# Altium footprint library PcbLib1.PcbLib: 20 footprints (part 1 of 2)
Each footprint in its own frame and in the unit in brackets; x right, y up, seen from the top. Pads: shape width x height; smd on the part's side, far side on the other; paste and mask are expansions set on the pad; w line width, h text height; cw(c..) or ccw(c..) is an arc to the next point about the centre after c.
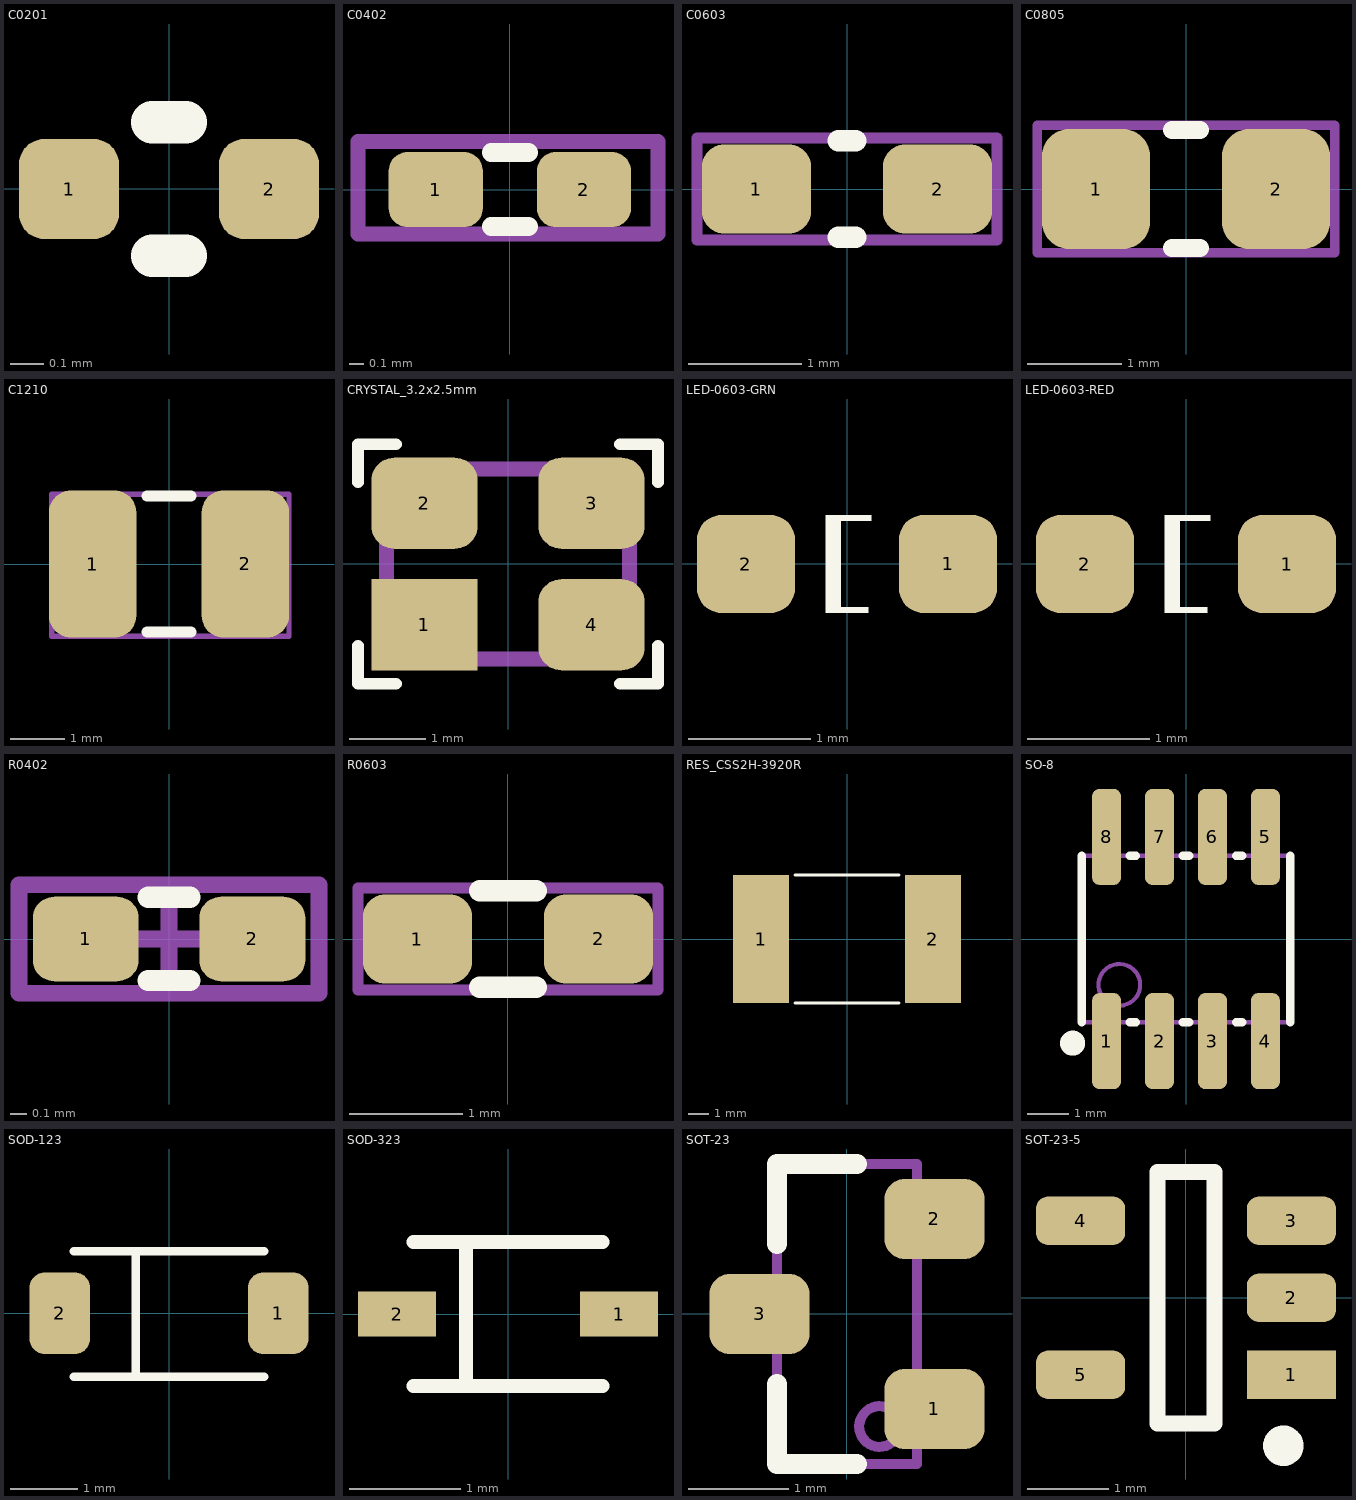
[diagram p0: the footprints below, top view; thin cyan lines are the x and y axes]

## C0201 [mm] "Chip Capacitor Body"
height 0.55
pads (2):
  rrect50% 0.3x0.3 smd mask+0.05: 1(-0.3,0) 2(0.3,0)
Top Overlay:
  lines w0.127: -0.05,-0.2 0.05,-0.2 ; -0.05,0.2 0.05,0.2
3D body "C0201_035.step": height 0.35, standoff 0, extent -0.3,-0.15 0.3,0.15

## C0402 [mm] "Chip Capacitor Body"
height 0.55
pads (2):
  rrect50% 0.635x0.508 smd mask+0.05: 1(-0.5,0) 2(0.5,0)
Top Overlay:
  lines w0.127: -0.125,-0.25 0.125,-0.25 ; -0.125,0.25 0.125,0.25
Mechanical 13:
  lines w0.1: -1.025,-0.3 -1.025,0.325 1,0.325 1,-0.3 -1.025,-0.3
3D body "CAPC-0402-T0.55-BN.stp": height 0.55, standoff 0, extent -0.525,-0.275 0.525,0.275

## C0603 [mil] "Chip Capacitor"
height 35.43
pads (2):
  rrect50% 38x31 smd mask+1.97: 1(-31.5,0) 2(31.5,0)
Top Overlay:
  lines w7.5: -2.95,-16.73 2.95,-16.73 ; -2.95,16.73 2.95,16.73
Mechanical 13:
  lines w3.94: -52.17,-17.72 52.17,-17.72 52.17,17.72 -52.17,17.72 -52.17,-17.72
3D body "CAPC-0603-T0.9-BN.stp": height 35.43, standoff 0, extent -33.46,-17.71 33.47,17.72

## C0805 [mil] "Chip Capacitor"
height 43.31
pads (2):
  rrect50% 45x50 smd mask+1.97: 1(-37.5,0) 2(37.5,0)
Top Overlay:
  lines w7.5: -5.91,-24.61 5.91,-24.61 ; -5.91,24.61 5.91,24.61
Mechanical 13:
  lines w3.94: -62.01,-26.57 -62.01,26.57 62.01,26.57 62.01,-26.57 -62.01,-26.57
3D body "CAPC-0805-T1.35-BN.stp": height 53.15, standoff 0, extent -41.34,-26.57 41.34,26.57

## C1210 [mm] "Chip Capacitor"
height 1.8
pads (2):
  rrect50% 1.6x2.7 smd mask+0.05: 1(-1.4,0) 2(1.4,0)
Top Overlay:
  lines w0.2: -0.4,-1.25 0.4,-1.25 ; -0.4,1.25 0.4,1.25
Mechanical 13:
  lines w0.1: -2.15,-1.325 2.2,-1.325 2.2,1.275 -2.15,1.275 -2.15,-1.325
3D body "CAPC-1210-T1.8-BN.stp": height 1.8, standoff 0, extent -1.75,-1.35 1.75,1.35

## CRYSTAL_3.2x2.5mm [mm]
pads (4):
  rect 1.4x1.2 smd mask+0.05: 1(-1.1,-0.8)
  rrect50% 1.4x1.2 smd mask+0.05: 2(-1.1,0.8) 3(1.1,0.8) 4(1.1,-0.8)
Top Overlay:
  lines w0.152: -1.975,-1.075 -1.975,-1.575 -1.475,-1.575 ; -1.975,1.075 -1.975,1.575 -1.475,1.575 ; 1.475,-1.575 1.975,-1.575 1.975,-1.075 ; 1.475,1.575 1.975,1.575 1.975,1.075
Mechanical 13:
  lines w0.2: -1.6,-1.25 -1.6,1.25 1.6,1.25 1.6,-1.25 -1.6,-1.25
3D body "User Library-Crystal_ECX-32.STEP": height 0.82, standoff 0, extent -1.6,-1.25 1.6,1.25

## LED-0603-GRN [mm]
height 0.55
pads (2):
  rrect50% 0.8x0.8 smd mask+0.05: 1(0.825,0) 2(-0.825,0)
Top Overlay:
  region: 0.2,0.4 -0.175,0.4 -0.175,0.35 0.2,0.35
  region: -0.05,0.4 -0.175,0.4 -0.175,-0.4 -0.05,-0.4
  region: 0.175,-0.35 -0.175,-0.35 -0.175,-0.4 0.175,-0.4
3D body "LED_0603_G.STEP": height 0.6, standoff 0, extent -0.8,-0.4 0.8,0.4

## LED-0603-RED [mm]
height 0.55
pads (2):
  rrect50% 0.8x0.8 smd paste+0 mask+0.05: 1(0.825,0) 2(-0.825,0)
Top Overlay:
  region: 0.175,-0.35 -0.175,-0.35 -0.175,-0.4 0.175,-0.4
  region: -0.05,0.4 -0.175,0.4 -0.175,-0.4 -0.05,-0.4
  region: 0.2,0.4 -0.175,0.4 -0.175,0.35 0.2,0.35
3D body "LED_0603_R.STEP": height 0.6, standoff 0, extent -0.8,-0.4 0.8,0.4

## R0402 [mil]
height 15.75
pads (2):
  rrect50% 25x20 smd mask+1.97: 1(-19.68,0) 2(19.69,0)
Top Overlay:
  lines w5: -4.92,-9.84 4.92,-9.84 ; -4.92,9.85 4.92,9.85
Mechanical 13:
  lines w3.94: -35.43,-12.79 -35.43,12.8 35.43,12.8 35.43,-12.79 -35.43,-12.79
Mechanical 15:
  lines w3.94: -10.83,0 10.83,0 ; 0,-10.83 0,10.83
3D body "RESC-0402.stp": height 15.75, standoff 0, extent -20.66,-10.82 20.68,10.83

## R0603 [mil] "Chip Resistor; Body 1.6 x 0.8 mm (LxW typ)"
height 21.65
pads (2):
  rrect50% 38x31 smd mask+1.97: 1(-31.5,0) 2(31.5,0)
Top Overlay:
  lines w7.5: -9.84,-16.73 9.84,-16.73 ; -9.84,16.73 9.84,16.73
Mechanical 13:
  lines w3.94: -52.17,-17.72 -52.17,17.72 52.17,17.72 52.17,-17.72 -52.17,-17.72
3D body "RESC-0603.stp": height 21.65, standoff 0, extent -33.46,-17.72 33.46,17.72

## RES_CSS2H-3920R [mm]
pads (2):
  rect 2.7x6.2 smd: 1(-4.15,0) 2(4.15,0)
Top Overlay:
  lines w0.15: -2.5,-3.1 2.5,-3.1 ; -2.5,3.1 2.5,3.1
3D body "User Library-LRMAP3920.step": height 1.98, standoff -0.02, extent -5.46,-2.76 5.46,2.76

## SO-8 [mm] "SOIC, 8-Leads, Body 4.9x3.9mm, Pitch 1.27mm, IPC Low Density"
height 1.75
pads (8):
  rrect50% 0.7x2.3 smd mask+0.05: 1(-1.905,-2.45) 2(-0.635,-2.45) 3(0.635,-2.45) 4(1.905,-2.45) 5(1.905,2.45) 6(0.635,2.45) 7(-0.635,2.45) 8(-1.905,2.45)
Top Overlay:
  circle w0.5: c-2.721,-2.5 r0.05
  lines w0.2: -2.5,-2 -2.5,2 ; -1.35,-2 -1.2,-2 ; -1.35,2 -1.2,2 ; -0.075,-2 0.075,-2 ; -0.075,2 0.075,2 ; 1.2,-2 1.35,-2 ; 1.2,2 1.35,2 ; 2.5,-2 2.5,2
Mechanical 13:
  circle w0.1: c-1.6,-1.1 r0.5
  lines w0.1: -2.5,-2 -2.5,2 2.5,2 2.5,-2 -2.5,-2
3D body "MS-012AA.stp": height 1.75, standoff 0, extent -2.5,-3.1 2.5,3.1

## SOD-123 [mm]
pads (2):
  rrect50% 0.91x1.22 smd mask+0.05: 1(1.635,0) 2(-1.635,0)
Top Overlay:
  lines w0.127: -1.425,-0.95 1.425,-0.95 ; -1.425,0.925 1.425,0.925 ; -0.5,-0.925 -0.5,0.9
3D body "MMSZ5226B-7-F--3DModel-STEP-1.STEP": height 1.44, standoff -0.01, extent -1.85,-0.775 1.85,0.775

## SOD-323 [mm]
height 1.1
pads (2):
  rect 0.701x0.403 smd mask+0.05: 1(1,0)
  rect 0.703x0.401 smd mask+0.05: 2(-1,0)
Top Overlay:
  lines w0.127: -0.85,-0.65 0.85,-0.65 ; -0.85,0.65 0.85,0.65 ; -0.377,-0.65 -0.377,0.65
3D body "SC-76.stp": height 1.1, standoff 0, extent -1.35,-0.725 1.35,0.725

## SOT-23 [mm]
height 1.2
pads (3):
  rrect50% 1x0.8 smd mask+0.05: 1(0.875,-0.95) 2(0.875,0.95) 3(-0.875,0)
Top Overlay:
  lines w0.2: -0.7,-0.7 -0.7,-1.5 0.1,-1.5 ; -0.7,0.7 -0.7,1.5 0.1,1.5
Mechanical 13:
  lines w0.1: 0.523,-1.169 cw(c0.325,-1.125) 0.526,-1.153 ; -0.7,-1.5 0.7,-1.5 0.7,1.5 -0.7,1.5 -0.7,-1.5
3D body "TO-236AB.stp": height 1.1, standoff 0, extent -1.275,-1.5 1.325,1.5

## SOT-23-5 [mm]
height 1.45
pads (5):
  rect 1.1x0.6 smd mask+0.05: 1(1.3,-0.95)
  rrect50% 1.1x0.6 smd mask+0.05: 2(1.3,0) 3(1.3,0.95) 4(-1.3,0.95) 5(-1.3,-0.95)
Top Overlay:
  circle w0.25: c1.2,-1.825 r0.125
  lines w0.2: -0.35,-1.55 -0.35,1.55 0.35,1.55 0.35,-1.55 -0.35,-1.55
3D body "SC-74A.stp": height 1.45, standoff 0, extent -1.6,-1.55 1.6,1.55